# EAGLE library part LCD-LMB204BFC (library steves)
TOPWAY
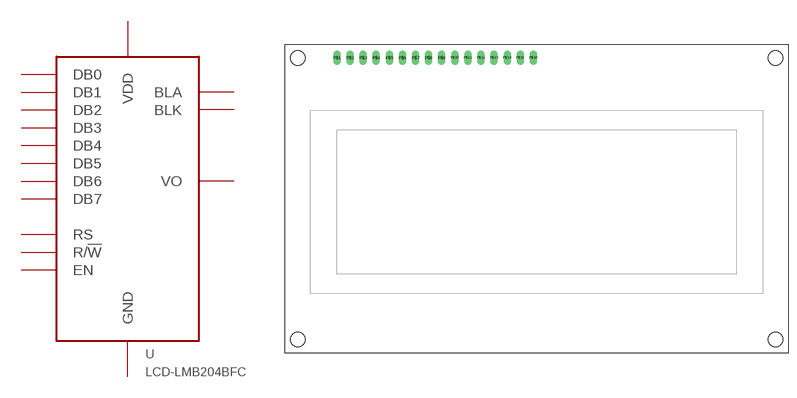
[diagram p21: symbol with the pads of LCD-LMB204BFC; footprint LCD-LMB204BFC]

Designator prefix -

## LCD-LMB204BFC  [LCD-LMB204BFC]
P$1  GND  pwr
P$2  VDD  pwr
P$3  VO  in
P$4  RS  in
P$5  R/!W  in
P$6  EN  in
P$7  DB0
P$8  DB1
P$9  DB2
P$10  DB3
P$11  DB4
P$12  DB5
P$13  DB6
P$14  DB7
P$15  BLA  pwr
P$16  BLK  pwr

## Footprint LCD-LMB204BFC (pad centres in mm)
drill 0.9 long: P$1 0,0; P$2 2.54,0; P$3 5.08,0; P$4 7.62,0; P$5 10.16,0; P$6 12.7,0; P$7 15.24,0; P$8 17.78,0; P$9 20.32,0; P$10 22.86,0; P$11 25.4,0; P$12 27.94,0; P$13 30.48,0; P$14 33.02,0; P$15 35.56,0; P$16 38.1,0
hole 2.8 at -7.62,0
hole 2.8 at 85.09,0
hole 2.8 at -7.62,-54.61
hole 2.8 at 85.09,-54.61